# EAGLE library part CC2650MODA (library electronic-labs)
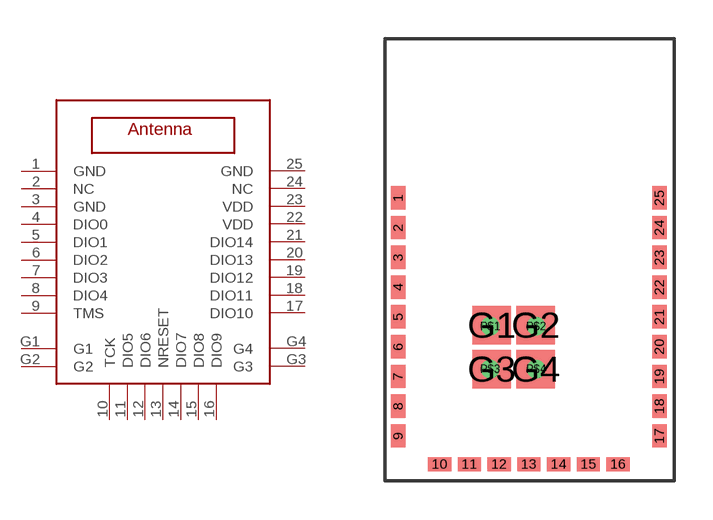
[diagram p18: symbol with the pads of CC2650MODA; footprint CC2650MODA]

Designator prefix -

## CC2650MODA  [CC2650MODA]
1  GND
2  NC  nc
3  GND
4  DIO0
5  DIO1
6  DIO2
7  DIO3
8  DIO4
9  TMS
10  TCK
11  DIO5
12  DIO6
13  NRESET
14  DIO7
15  DIO8
16  DIO9
17  DIO10
18  DIO11
19  DIO12
20  DIO13
21  DIO14
22  VDD
23  VDD
24  NC  nc
25  GND
G1  G1
G2  G2
G3  G3
G4  G4

## Footprint CC2650MODA (pad centres in mm)
smd 0.55 x 0.9: 1 -4.953,2.3; 2 -4.953,1.15; 3 -4.953,0; 4 -4.953,-1.15; 5 -4.953,-2.3; 6 -4.953,-3.45; 7 -4.953,-4.6; 8 -4.953,-5.75; 9 -4.953,-6.9; 17 5.147,-6.9; 18 5.147,-5.75; 19 5.147,-4.6; 20 5.147,-3.45; 21 5.147,-2.3; 22 5.147,-1.15; 23 5.147,0; 24 5.147,1.15; 25 5.147,2.3
smd 0.9 x 0.55: 10 -3.353,-8; 11 -2.203,-8; 12 -1.053,-8; 13 0.097,-8; 14 1.247,-8; 15 2.397,-8; 16 3.547,-8
smd 1.5 x 1.5: G1 -1.338,-2.625; G2 0.362,-2.625; G3 -1.338,-4.325; G4 0.362,-4.325
drill 0.2: P$1 -1.397,-2.667; P$2 0.381,-2.667; P$3 -1.397,-4.318; P$4 0.381,-4.318